# Altium footprint library WR-WTB_2.54mm.PcbLib: 34 footprints (part 3 of 3)
Each footprint in its own frame and in the unit in brackets; x right, y up, seen from the top. Pads: shape width x height; smd on the part's side, far side on the other; paste and mask are expansions set on the pad; w line width, h text height; cw(c..) or ccw(c..) is an arc to the next point about the centre after c.
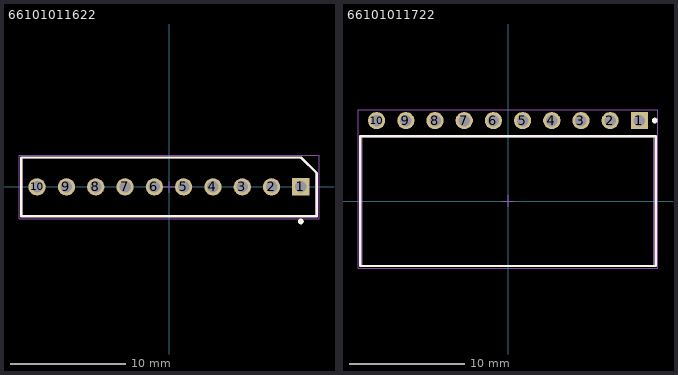
[diagram p2: the footprints below, top view; thin cyan lines are the x and y axes]

## 66101011622 [mm] "2.54 mm Intercom Male Horizontal Shrouded Header, 10p"
height 11.3
pads (10):
  rect 1.5x1.5 hole 1: 1(11.43,0)
  round 1.5 hole 1: 2(8.89,0) 3(6.35,0) 4(3.81,0) 5(1.27,0) 6(-1.27,0) 7(-3.81,0) 8(-6.35,0) 9(-8.89,0) 10(-11.43,0)
Top Overlay:
  circle w0.25: c11.43,-3 r0.125
  lines w0.2: -12.8,-2.55 12.8,-2.55 12.8,1.2 11.45,2.55 -12.8,2.55 -12.8,-2.55
Mechanical 13:
  lines w0.1: -12.7,-2.5 -12.7,2.5 11.5,2.5 12.7,1.3 12.7,-2.5 -12.7,-2.5
Mechanical 15:
  lines w0.05: -0.5,0 0.5,0 ; 0,-0.5 0,0.5 ; -13,-2.75 13,-2.75 13,2.75 -13,2.75 -13,-2.75
3D body "66101011622.stp": height 11.33, standoff -2.97, extent -12.55,-2.5 12.55,2.5

## 66101011722 [mm] "2.54 mm Intercom Male Right Angled Shrouded Locking Header, 10p"
height 5
pads (10):
  rect 1.5x1.5 hole 1: 1(11.43,7)
  round 1.5 hole 1: 2(8.89,7) 3(6.35,7) 4(3.81,7) 5(1.27,7) 6(-1.27,7) 7(-3.81,7) 8(-6.35,7) 9(-8.89,7) 10(-11.43,7)
Top Overlay:
  circle w0.25: c12.76,7 r0.125
  lines w0.2: -12.85,-5.65 12.85,-5.65 12.85,5.65 -12.85,5.65 -12.85,-5.65
Mechanical 13:
  lines w0.1: -12.7,-5.6 -12.7,5.6 12.7,5.6 12.7,-5.6 -12.7,-5.6
Mechanical 15:
  lines w0.05: -0.5,0 0.5,0 ; 0,-0.5 0,0.5 ; -13.05,-5.85 13.05,-5.85 13.05,7.95 -13.05,7.95 -13.05,-5.85
3D body "66101011722.stp": height 5.05, standoff -2.85, extent -12.562,-5.6 12.562,7.318